# Altium footprint library OSCSC6P120_320X130X100L130X40N.PcbLib: 1 footprints
Each footprint in its own frame and in the unit in brackets; x right, y up, seen from the top. Pads: shape width x height; smd on the part's side, far side on the other; paste and mask are expansions set on the pad; w line width, h text height; cw(c..) or ccw(c..) is an arc to the next point about the centre after c.
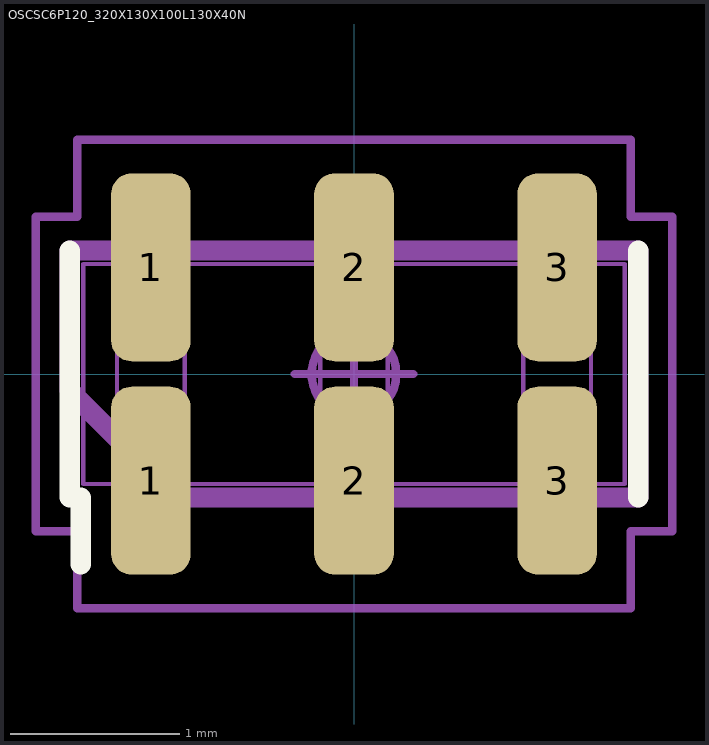
[diagram p0: the footprint, top view; thin cyan lines are the x and y axes]

## OSCSC6P120_320X130X100L130X40N [mm] "Oscillator, Side Concave, 1.20 mm pitch; 6 pin, 3.20 mm L X 1.30 mm W X 1.00 mm H body"
height 1
pads (6):
  rrect51% 0.47x1.11 smd: 1(-1.2,-0.63) 1(-1.2,0.63) 2(0,-0.63) 2(0,0.63) 3(1.2,-0.63) 3(1.2,0.63)
Top Overlay:
  lines w0.12: -1.68,-0.73 -1.68,0.73 ; -1.615,-1.125 -1.615,-0.73 ; 1.68,-0.73 1.68,0.73
Mechanical 3:
  lines w0.12: -1.68,-0.098 -1.048,-0.73 1.68,-0.73 1.68,0.73 -1.68,0.73 -1.68,-0.098
Mechanical 5:
  lines w0.025: -1.4,-0.65 -1,-0.65 ; -1.4,-0.65 -1.4,0.65 ; -1.4,-0.65 -1,-0.65 ; -1.4,-0.65 -1.4,0.65 ; -1.4,0.65 -1,0.65 ; -1.4,0.65 -1,0.65 ; -1,-0.65 -1,0.65 ; -1,-0.65 -1,0.65 ; -0.2,-0.65 0.2,-0.65 ; -0.2,-0.65 -0.2,0.65 ; -0.2,-0.65 0.2,-0.65 ; -0.2,-0.65 -0.2,0.65 ; -0.2,0.65 0.2,0.65 ; -0.2,0.65 0.2,0.65 ; 0.2,-0.65 0.2,0.65 ; 0.2,-0.65 0.2,0.65 ; 1,-0.65 1.4,-0.65 ; 1,-0.65 1,0.65 ; 1,-0.65 1.4,-0.65 ; 1,-0.65 1,0.65 ; 1,0.65 1.4,0.65 ; 1,0.65 1.4,0.65 ; 1.4,-0.65 1.4,0.65 ; 1.4,-0.65 1.4,0.65 ; -1.6,-0.65 -1.6,0.65 1.6,0.65 1.6,-0.65 -1.6,-0.65
Mechanical 7:
  circle w0.05: c0,0 r0.25
  lines w0.05: -0.35,0 0.35,0 ; 0,-0.35 0,0.35 ; -1.88,-0.93 -1.88,0.93 -1.635,0.93 -1.635,1.385 1.635,1.385 1.635,0.93 1.88,0.93 1.88,-0.93 1.635,-0.93 1.635,-1.385 -1.635,-1.385 -1.635,-0.93 -1.88,-0.93
Mechanical 9:
  text "'.Designator'" at -5.715,-0.381 h1
3D body "OSCSC6P120_320X130X100L130X40N2.STEP": height 1, standoff 0, extent -1.6,-0.7 1.6,0.7
3D body: height 0.03, standoff 0, extent -1.88,-1.385 1.88,1.385